# Altium footprint library DIODE.PCBLIB: 42 footprints (part 1 of 3)
Each footprint in its own frame and in the unit in brackets; x right, y up, seen from the top. Pads: shape width x height; smd on the part's side, far side on the other; paste and mask are expansions set on the pad; w line width, h text height; cw(c..) or ccw(c..) is an arc to the next point about the centre after c.
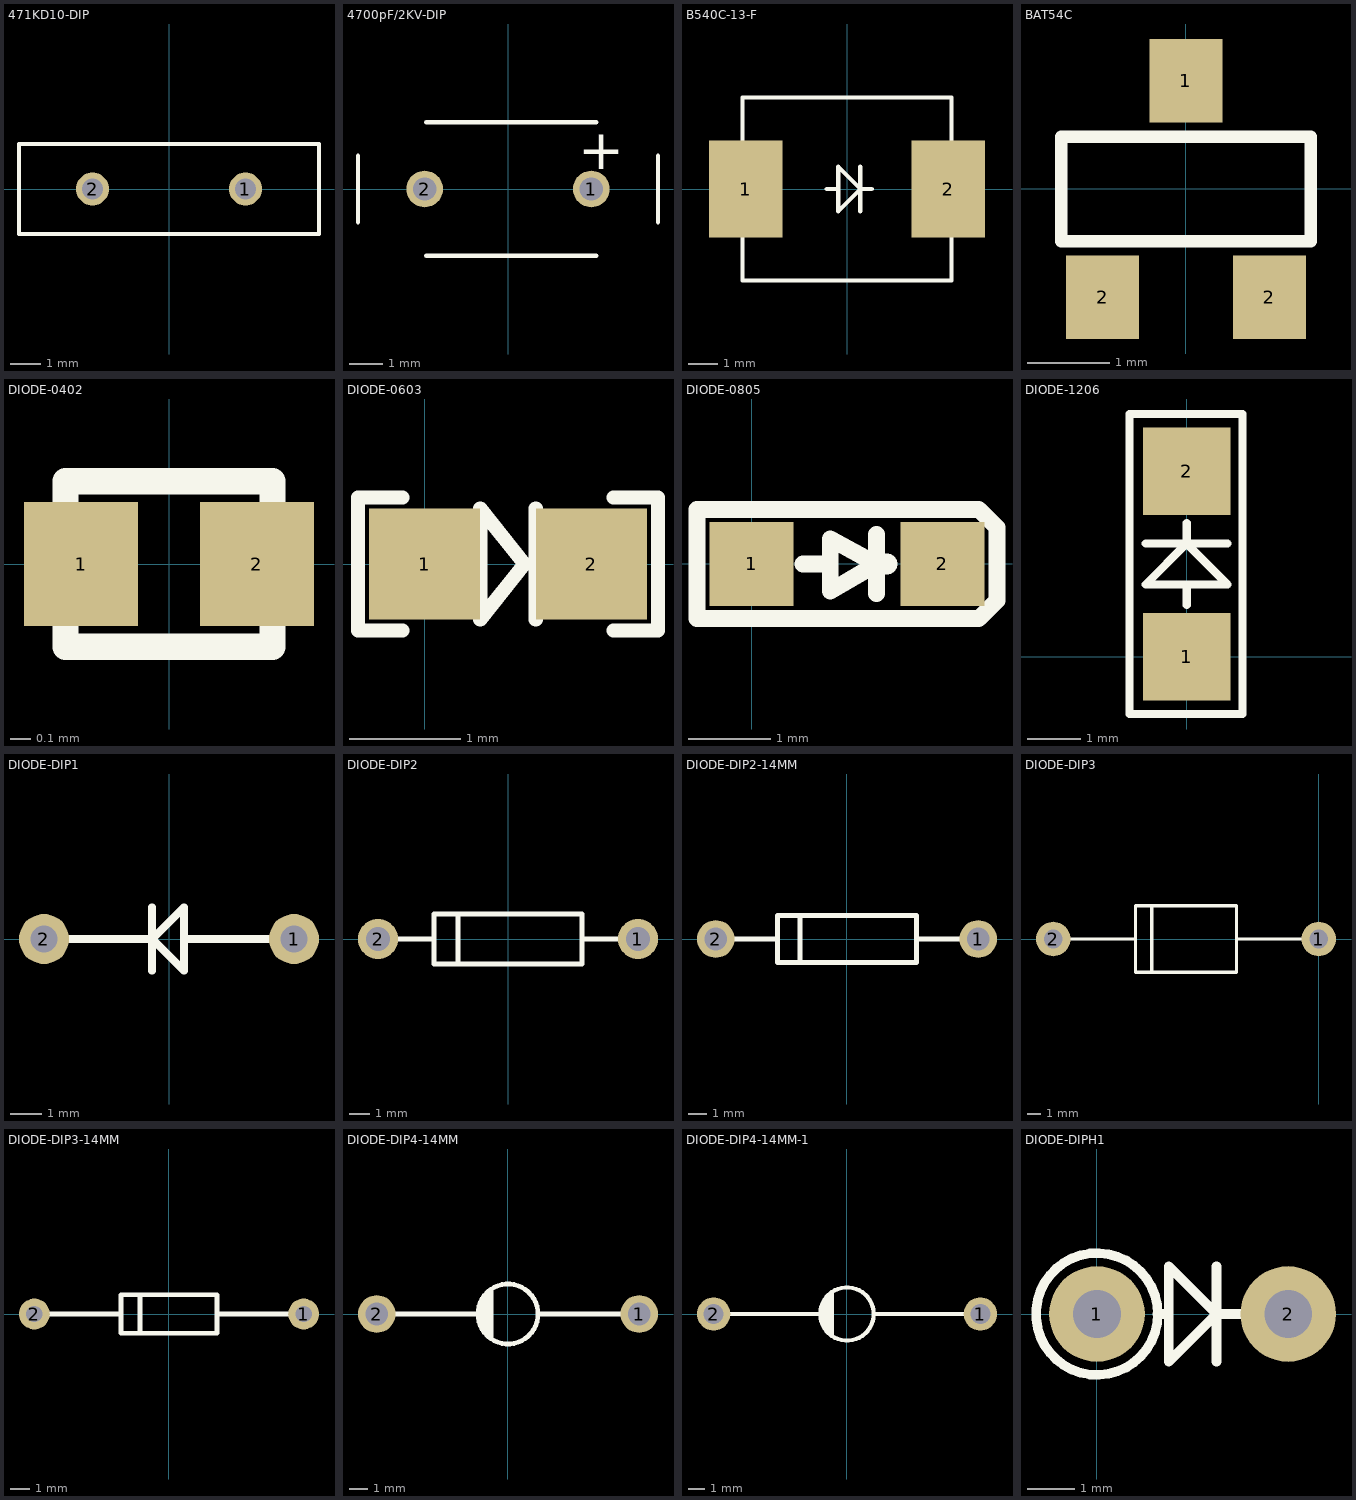
[diagram p0: the footprints below, top view; thin cyan lines are the x and y axes]

## 471KD10-DIP [mm] "471KD10-DIP"
pads (2):
  round 1.1 hole 0.7: 1(2.55,0) 2(-2.55,0)
TopOverlay:
  lines w0.127: -5,-1.5 -5,1.5 5,1.5 5,-1.5 -5,-1.5

## 4700pF/2KV-DIP [mm] "4700pF/2KV-DIP"
pads (2):
  round 1.1 hole 0.7: 1(2.5,0) 2(-2.5,0)
TopOverlay:
  lines w0.127: -4.5,-1 -4.5,1 ; -2.45,-2 2.65,-2 ; -2.45,2 2.65,2 ; 4.5,-1 4.5,1
  text "+" at 2.1,0.6 h1.2

## B540C-13-F [mm] "B540C-13-F"
pads (2):
  rect 2.5x3.3 smd: 1(-3.45,0) 2(3.45,0)
TopOverlay:
  lines w0.127: -3.555,-3.11 3.555,-3.11 3.555,3.11 -3.555,3.11 -3.555,-3.11
  lines w0.152: -0.685,0 -0.304,0 ; 0.458,-0.762 0.458,0.762 ; 0.839,0 0.458,0 ; 0.458,0 -0.304,-0.762 -0.304,0.762 0.458,0

## BAT54C [mil]
pads (3):
  rect 35x40 smd: 1(0,52) 2(-40,-52) 2(40,-52)
TopOverlay:
  lines w6: -60,-25 60,-25 60,25 -60,25 -60,-25

## DIODE-0402 [mm] "DIODE-0402"
pads (2):
  rect 0.55x0.6 smd mask+0.05: 1(-0.425,0) 2(0.425,0)
TopOverlay:
  lines w0.127: -0.5,-0.4 -0.5,0.4 0.5,0.4 0.5,-0.4 -0.5,-0.4

## DIODE-0603 [mm]
pads (2):
  rect 1x1 smd: 1(0,0) 2(1.5,0)
TopOverlay:
  lines w0.127: -0.2,-0.6 -0.6,-0.6 -0.6,0.6 -0.2,0.6 ; 1,-0.5 1,0.5 ; 1.7,-0.6 2.1,-0.6 2.1,0.6 1.7,0.6 ; 0.9,0 0.5,-0.5 0.5,-0.3 0.5,0.2 0.5,0.5 0.9,0 ; 0.9,0 0.9,0

## DIODE-0805 [mil]
pads (2):
  rect 40x40 smd: 1(0,0) 2(91,0)
TopOverlay:
  lines w8: 24.5,0 37.5,0 ; 59.5,-14 59.5,14 ; -26,-26 -26,0 -26,26 108.33,26 117,17.33 117,-17.33 108.33,-26 -26,-26 ; 37.5,-13 37.5,12 59.5,0 37.5,-13
  lines w10: 59.5,0 64.5,0

## DIODE-1206 [mil]
pads (2):
  rect 64.02x64.02 smd: 1(0,0) 2(0,136)
TopOverlay:
  lines w6: -30,83 30,83 ; 0,38 0,53 ; 0,98 0,83 ; 0,83 30,53 -30,53 0,83 ; -42,-42 -42,178 41,178 41,-42 -42,-42

## DIODE-DIP1 [mm]
pads (2):
  round 1.6 hole 0.85: 1(4,0) 2(-4,0)
TopOverlay:
  lines w0.254: -4,0 -0.539,0 ; -0.539,-1.016 -0.539,1.016 -0.539,0 ; 0.477,0 4,0 ; -0.539,0 0.477,1.016 0.477,-1.016 -0.539,0

## DIODE-DIP2 [mm]
pads (2):
  round 2 hole 1.2: 1(6.5,0) 2(-6.5,0)
TopOverlay:
  lines w0.254: -6.5,0 -3.7,0 ; -2.5,-1.25 -2.5,1.25 ; 3.7,0 6.5,0 ; -3.7,-1.25 3.7,-1.25 3.7,1.25 -3.7,1.25 -3.7,-1.25

## DIODE-DIP2-14MM [mm]
pads (2):
  round 2 hole 1.2: 1(7,0) 2(-7,0)
TopOverlay:
  lines w0.254: -6.5,0 -3.7,0 ; -2.5,-1.25 -2.5,1.25 ; 3.7,0 6.5,0 ; -3.7,-1.25 -3.7,1.25 3.7,1.25 3.7,-1.25 -3.7,-1.25

## DIODE-DIP3 [mm]
pads (2):
  round 2.6 hole 1.4: 1(0,0) 2(-20,0)
TopOverlay:
  lines w0.254: -20,0 -13.8,0 ; -12.575,-2.475 -12.575,2.5 ; -6.2,0 0,0 ; -13.8,-2.5 -6.2,-2.5 -6.2,2.5 -13.8,2.5 -13.8,-2.5

## DIODE-DIP3-14MM [mm]
pads (2):
  round 1.6 hole 0.85: 1(7,0) 2(-7,0)
TopOverlay:
  lines w0.254: -7,0 -2.5,0 ; -1.5,-1 -1.5,1 ; 2.5,0 7,0 ; -2.5,-1 -2.5,1 2.5,1 2.5,-1 -2.5,-1

## DIODE-DIP4-14MM [mm]
pads (2):
  round 2 hole 1.2: 1(7,0) 2(-7,0)
TopOverlay:
  circle w0.254: c0,0 r1.6
  lines w0.254: -6.5,0 -1.6,0 ; -1.5,-0.4 -1.5,0.4 ; -1.3,-0.8 -1.3,0.7 ; -1.1,-1 -1.1,1 ; -0.9,-1.3 -0.9,1.3 ; 1.6,0 6.5,0

## DIODE-DIP4-14MM-1 [mm]
pads (2):
  round 2 hole 1.2: 1(8,0) 2(-8,0)
TopOverlay:
  circle w0.254: c0,0 r1.6
  lines w0.254: -8,0 -1.6,0 ; -1.5,-0.4 -1.5,0.4 ; -1.3,-0.8 -1.3,0.7 ; -1.1,-1 -1.1,1 ; -0.9,-1.3 -0.9,1.3 ; 1.6,0 7.5,0

## DIODE-DIPH1 [mm]
pads (2):
  round 2 hole 1: 1(0,0) 2(4,0)
TopOverlay:
  circle w0.2: c0,0 r1.275
  lines w0.203: 1.268,0 1.5,0 ; 2.5,-1 2.5,1 ; 3,0 2.5,0 ; 1.5,-1 2.5,0 ; 1.5,-1 1.5,-1 ; 1.5,-1 1.5,1 2.5,0 ; 2.5,0 2.5,0